# EAGLE library part M5-T144 (library amd-mach)
AMD MACH SERIES
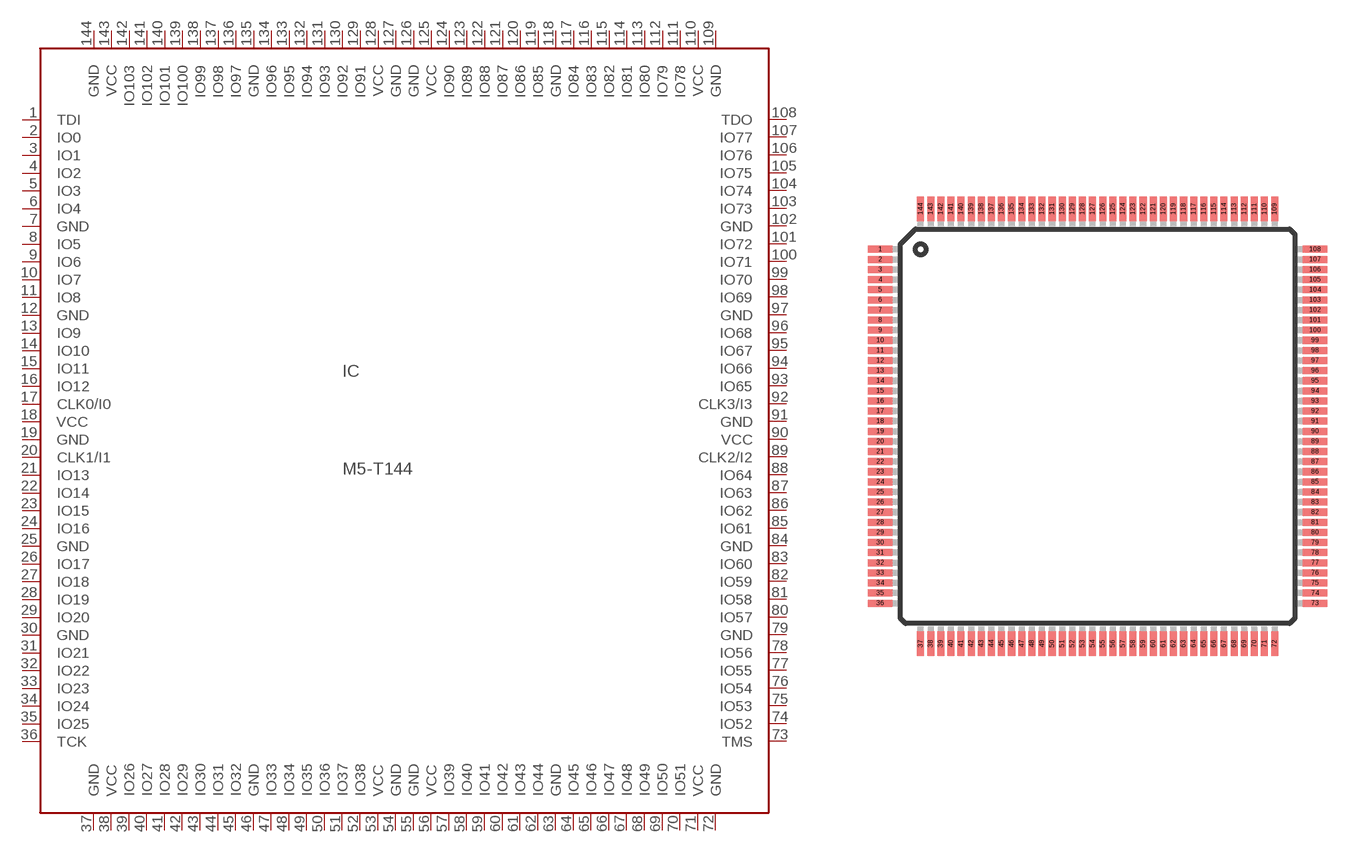
[diagram p13: symbol with the pads of TQFP144; footprint TQFP144]

Designator prefix IC

## M5-T144  [TQFP144]
1  TDI  in
2  IO0
3  IO1
4  IO2
5  IO3
6  IO4
7  GND  pwr
8  IO5
9  IO6
10  IO7
11  IO8
12  GND  pwr
13  IO9
14  IO10
15  IO11
16  IO12
17  CLK0/I0  in
18  VCC  pwr
19  GND  pwr
20  CLK1/I1  in
21  IO13
22  IO14
23  IO15
24  IO16
25  GND  pwr
26  IO17
27  IO18
28  IO19
29  IO20
30  GND  pwr
31  IO21
32  IO22
33  IO23
34  IO24
35  IO25
36  TCK  in
37  GND  pwr
38  VCC  pwr
39  IO26
40  IO27
41  IO28
42  IO29
43  IO30
44  IO31
45  IO32
46  GND  pwr
47  IO33
48  IO34
49  IO35
50  IO36
51  IO37
52  IO38
53  VCC  pwr
54  GND  pwr
55  GND  pwr
56  VCC  pwr
57  IO39
58  IO40
59  IO41
60  IO42
61  IO43
62  IO44
63  GND  pwr
64  IO45
65  IO46
66  IO47
67  IO48
68  IO49
69  IO50
70  IO51
71  VCC  pwr
72  GND  pwr
73  TMS  in
74  IO52
75  IO53
76  IO54
77  IO55
78  IO56
79  GND  pwr
80  IO57
81  IO58
82  IO59
83  IO60
84  GND  pwr
85  IO61
86  IO62
87  IO63
88  IO64
89  CLK2/I2  in
90  VCC  pwr
91  GND  pwr
92  CLK3/I3  in
93  IO65
94  IO66
95  IO67
96  IO68
97  GND  pwr
98  IO69
99  IO70
100  IO71
101  IO72
102  GND  pwr
103  IO73
104  IO74
105  IO75
106  IO76
107  IO77
108  TDO  out
109  GND  pwr
110  VCC  pwr
111  IO78
112  IO79
113  IO80
114  IO81
115  IO82
116  IO83
117  IO84
118  GND  pwr
119  IO85
120  IO86
121  IO87
122  IO88
123  IO89
124  IO90
125  VCC  pwr
126  GND  pwr
127  GND  pwr
128  VCC  pwr
129  IO91
130  IO92
131  IO93
132  IO94
133  IO95
134  IO96
135  GND  pwr
136  IO97
137  IO98
138  IO99
139  IO100
140  IO101
141  IO102
142  IO103
143  VCC  pwr
144  GND  pwr

## Footprint TQFP144 (pad centres in mm)
THIN QUAD FLAT PACK
smd 1.2 x 0.35: 1 -10.75,8.75; 2 -10.75,8.25; 3 -10.75,7.75; 4 -10.75,7.25; 5 -10.75,6.75; 6 -10.75,6.25; 7 -10.75,5.75; 8 -10.75,5.25; 9 -10.75,4.75; 10 -10.75,4.25; 11 -10.75,3.75; 12 -10.75,3.25; 13 -10.75,2.75; 14 -10.75,2.25; 15 -10.75,1.75; 16 -10.75,1.25; 17 -10.75,0.75; 18 -10.75,0.25; 19 -10.75,-0.25; 20 -10.75,-0.75; 21 -10.75,-1.25; 22 -10.75,-1.75; 23 -10.75,-2.25; 24 -10.75,-2.75; 25 -10.75,-3.25; 26 -10.75,-3.75; 27 -10.75,-4.25; 28 -10.75,-4.75; 29 -10.75,-5.25; 30 -10.75,-5.75; 31 -10.75,-6.25; 32 -10.75,-6.75; 33 -10.75,-7.25; 34 -10.75,-7.75; 35 -10.75,-8.25; 36 -10.75,-8.75; 73 10.75,-8.75; 74 10.75,-8.25; 75 10.75,-7.75; 76 10.75,-7.25; 77 10.75,-6.75; 78 10.75,-6.25; 79 10.75,-5.75; 80 10.75,-5.25; 81 10.75,-4.75; 82 10.75,-4.25; 83 10.75,-3.75; 84 10.75,-3.25; 85 10.75,-2.75; 86 10.75,-2.25; 87 10.75,-1.75; 88 10.75,-1.25; 89 10.75,-0.75; 90 10.75,-0.25; 91 10.75,0.25; 92 10.75,0.75; 93 10.75,1.25; 94 10.75,1.75; 95 10.75,2.25; 96 10.75,2.75; 97 10.75,3.25; 98 10.75,3.75; 99 10.75,4.25; 100 10.75,4.75; 101 10.75,5.25; 102 10.75,5.75; 103 10.75,6.25; 104 10.75,6.75; 105 10.75,7.25; 106 10.75,7.75; 107 10.75,8.25; 108 10.75,8.75
smd 0.35 x 1.2: 37 -8.75,-10.75; 38 -8.25,-10.75; 39 -7.75,-10.75; 40 -7.25,-10.75; 41 -6.75,-10.75; 42 -6.25,-10.75; 43 -5.75,-10.75; 44 -5.25,-10.75; 45 -4.75,-10.75; 46 -4.25,-10.75; 47 -3.75,-10.75; 48 -3.25,-10.75; 49 -2.75,-10.75; 50 -2.25,-10.75; 51 -1.75,-10.75; 52 -1.25,-10.75; 53 -0.75,-10.75; 54 -0.25,-10.75; 55 0.25,-10.75; 56 0.75,-10.75; 57 1.25,-10.75; 58 1.75,-10.75; 59 2.25,-10.75; 60 2.75,-10.75; 61 3.25,-10.75; 62 3.75,-10.75; 63 4.25,-10.75; 64 4.75,-10.75; 65 5.25,-10.75; 66 5.75,-10.75; 67 6.25,-10.75; 68 6.75,-10.75; 69 7.25,-10.75; 70 7.75,-10.75; 71 8.25,-10.75; 72 8.75,-10.75; 109 8.75,10.75; 110 8.25,10.75; 111 7.75,10.75; 112 7.25,10.75; 113 6.75,10.75; 114 6.25,10.75; 115 5.75,10.75; 116 5.25,10.75; 117 4.75,10.75; 118 4.25,10.75; 119 3.75,10.75; 120 3.25,10.75; 121 2.75,10.75; 122 2.25,10.75; 123 1.75,10.75; 124 1.25,10.75; 125 0.75,10.75; 126 0.25,10.75; 127 -0.25,10.75; 128 -0.75,10.75; 129 -1.25,10.75; 130 -1.75,10.75; 131 -2.25,10.75; 132 -2.75,10.75; 133 -3.25,10.75; 134 -3.75,10.75; 135 -4.25,10.75; 136 -4.75,10.75; 137 -5.25,10.75; 138 -5.75,10.75; 139 -6.25,10.75; 140 -6.75,10.75; 141 -7.25,10.75; 142 -7.75,10.75; 143 -8.25,10.75; 144 -8.75,10.75